# Altium schematic symbol library omap.SchLib: 52 symbols
Pins are listed as number, name and electrical type; pins without a type are passive.

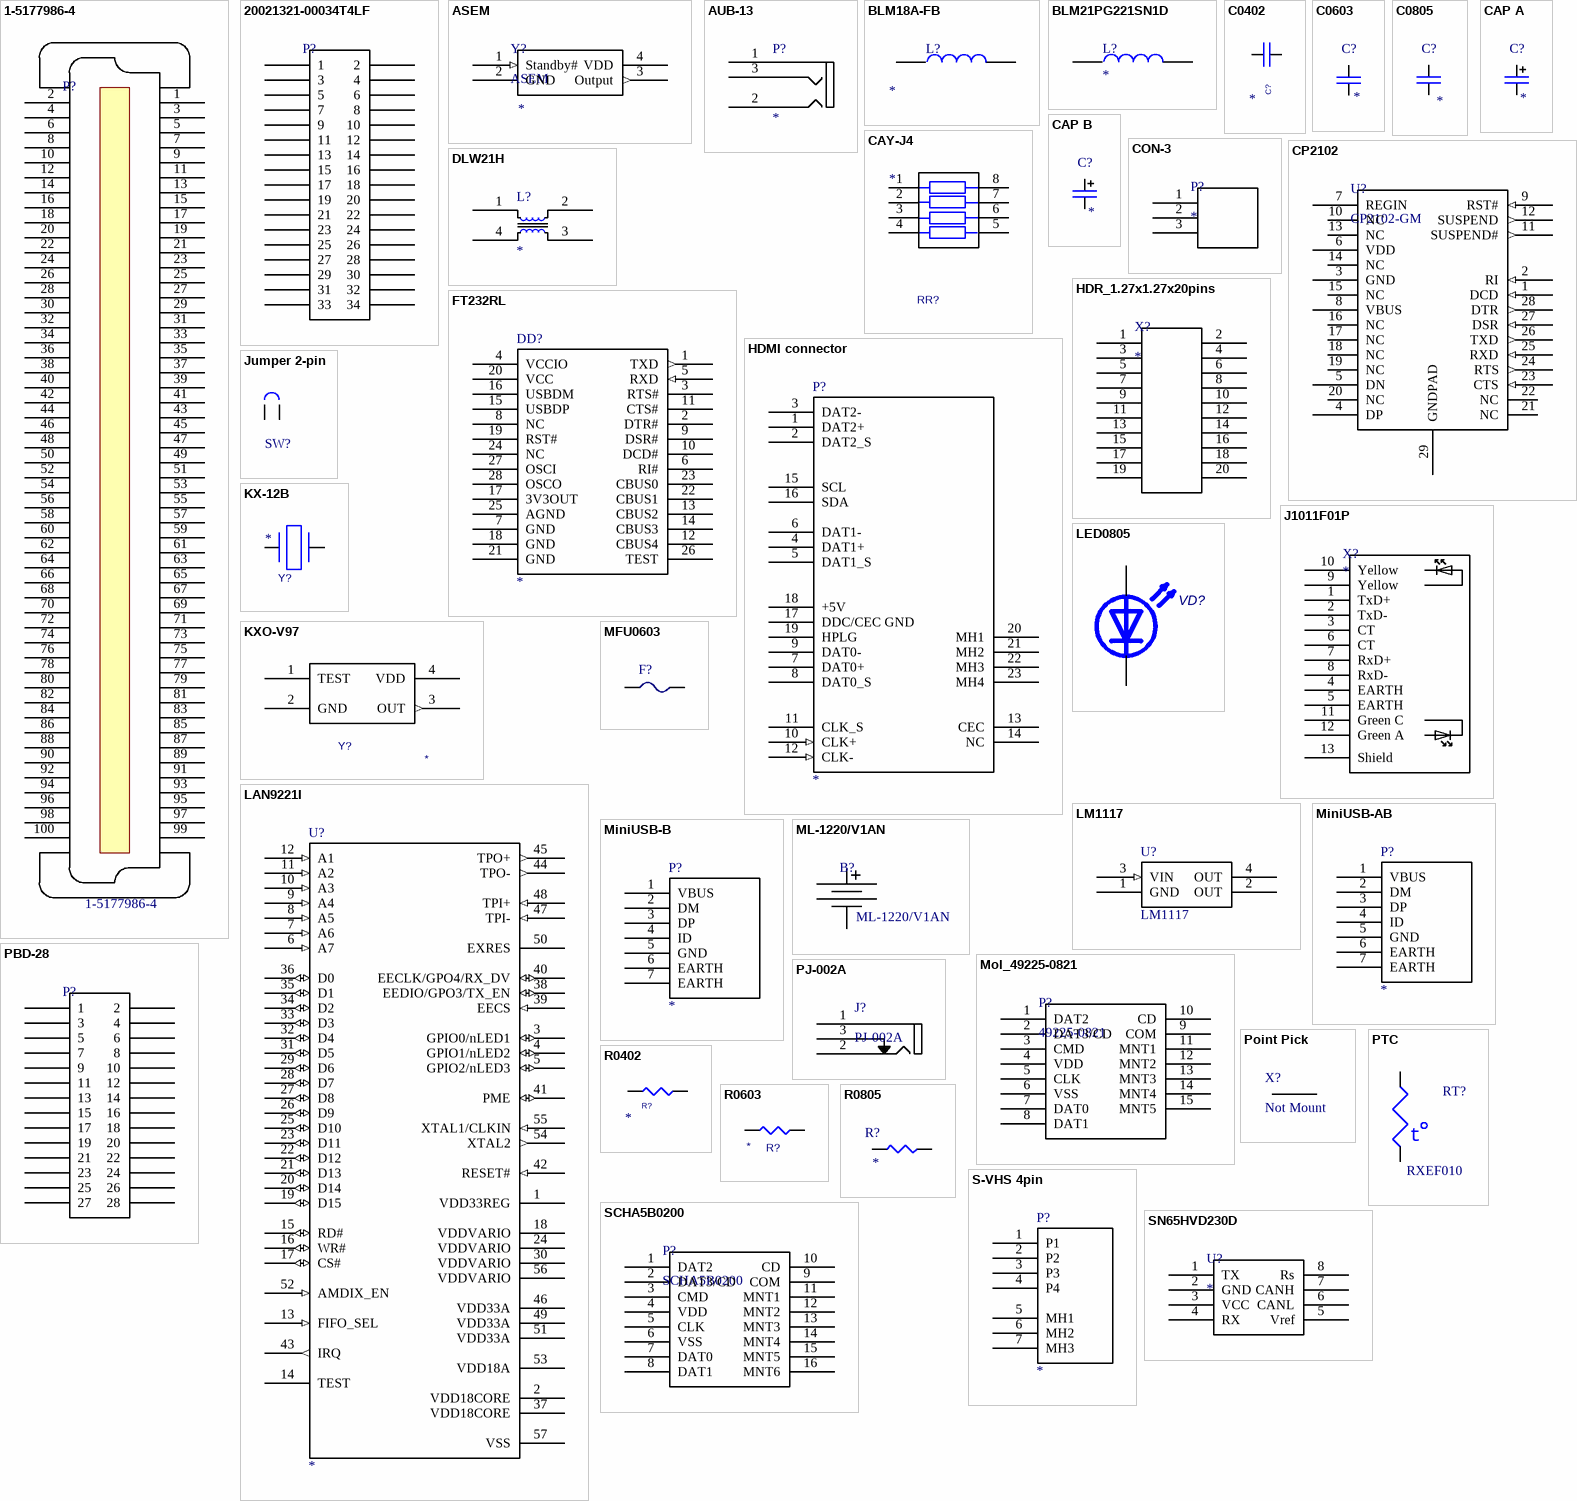
[diagram p0: symbols 1-5177986-4 to SN65HVD230D]

## 1-5177986-4
designator P?  Man P/N: 1-5177986-4  (hidden comment: *)
Fine Pitch SMT Stacking Connectors; Manufacturer: TE Connectivity
footprint 1-5177986-4
pins: 1, 2, 3, 4, 5, 6, 7, 8, 9, 10, 11, 12, 13, 14, 15, 16, 17, 18, 19, 20, 21, 22, 23, 24, 25, 26, 27, 28, 29, 30, 31, 32, 33, 34, 35, 36, 37, 38, 39, 40, 41, 42, 43, 44, 45, 46, 47, 48, 49, 50, 51, 52, 53, 54, 55, 56, 57, 58, 59, 60, 61, 62, 63, 64, 65, 66, 67, 68, 69, 70, 71, 72, 73, 74, 75, 76, 77, 78, 79, 80, 81, 82, 83, 84, 85, 86, 87, 88, 89, 90, 91, 92, 93, 94, 95, 96, 97, 98, 99, 100

## 20021321-00034T4LF
designator P?  (value not drawn)
CONN RECEPT 34POS DUAL SMD; Manufacturer: Minitek; Vendor: Digikey; Vendor P/N: 609-3777-ND; Man P/N: 20021321-00034T4LF
footprint 20021321-00034T4LF (Connector; Socket; 17x2 Position)
pins: 1, 2, 3, 4, 5, 6, 7, 8, 9, 10, 11, 12, 13, 14, 15, 16, 17, 18, 19, 20, 21, 22, 23, 24, 25, 26, 27, 28, 29, 30, 31, 32, 33, 34

## ASEM
designator Y?
Ultra Miniature Pure SiliconTM Clock Oscillator; Manufacturer: Abracon; Man P/N: *; Value: *
footprint ASEM
pins: 1 Standby# (in), 2 GND (power), 3 Output (out), 4 VDD (power)

## AUB-13
designator P?
Audio connector mini-jack 3.5mm, 3 pins; Vendor: brownbear.ru
footprint AUB_13 (3.5mm audio jack, PTH on pcb, 3 contacts)
pins: 1 GND, 2 RIGHT, 3 LEFT

## BLM18A-FB
designator L?
Chip EMIFILr Inductor Type; Manufacturer: Murata; Man P/N: *
footprint CHIP0603
pins: 1, 2

## BLM21PG221SN1D
designator L?
BLM21PG221SN1D; Manufacturer: Murata; Man P/N: BLM21PG221SN1D
footprint Chip2PinSM127P600-8N
pins: 1, 2

## C0402
designator C?  (value not drawn)
Ceramic capacitor C0402; Value: *
footprint CHIP0402
pins: 1, 2

## C0603
designator C?  (value not drawn)
Ceramic capacitor C0603; Value: *
footprint CHIP0603
pins: 1, 2

## C0805
designator C?
0805 Ceramic X5R; Value: *
footprint CHIP0805
pins: 1, 2

## CAP A
designator C?
Tantalum capacitor. Case A; Value: *
footprint A (Capacitor, SM Tantalum; Body 3.2 x 1.6 mm (LxW typ))
pins: 1, 2

## CAP B
designator C?
Tantalum capacitor. Case B; Value: *
footprint B (Capacitor, SM Tantalum; Body 3.5 x 2.8 mm (LxW typ))
pins: 1, 2

## CAY-J4
designator RR?
Resistor network 4x; Value: *
footprint PACKAGE-J4
pins: 1, 2, 3, 4, 5, 6, 7, 8

## CON-3
designator P?
2.54mm connector
pins: 1, 2, 3

## CP2102
designator U?, comment CP2102-GM
SINGLE-CHIP USB TO UART BRIDGE; Manufacturer: Silicon Labs; Man P/N: CP2102-GM
footprint QFN28 (28-Pin Quad Flat No-Lead 0.5 mm Pitch, IPC Low Density)
pins: 1 DCD (in), 2 RI (in), 3 GND, 4 DP, 5 DN, 6 VDD, 7 REGIN, 8 VBUS, 9 RST# (in), 10 NC, 11 SUSPEND# (out), 12 SUSPEND (out), 13 NC, 14 NC, 15 NC, 16 NC, 17 NC, 18 NC, 19 NC, 20 NC, 21 NC, 22 NC, 23 CTS (in), 24 RTS (out), 25 RXD (in), 26 TXD (out), 27 DSR (in), 28 DTR (out), 29 GNDPAD

## DLW21H
designator L?
Low profile wire-wound common choke coil; Manufacturer: Murata; Man P/N: DLW21HN900SQ2
footprint DLW21H (DLW21H Series Murata)
pins: 1, 2, 3, 4

## FT232RL
designator DD?
Single chip USB to USART transfer interface.; Manufacturer: FTDI; Man P/N: FT232RL; Package: 28 Pin SSOP
footprint SOP65P780X200-28N (SOP, 28-Leads, Body 10,5x5,6mm (max), Pitch 0,65mm, IPC Medium Density)
pins: 1 TXD (out), 2 DTR#, 3 RTS#, 4 VCCIO, 5 RXD (in), 6 RI#, 7 GND (power), 8 NC, 9 DSR#, 10 DCD#, 11 CTS#, 12 CBUS4, 13 CBUS2, 14 CBUS3, 15 USBDP, 16 USBDM, 17 3V3OUT (power), 18 GND (power), 19 RST#, 20 VCC (power), 21 GND (power), 22 CBUS1, 23 CBUS0, 24 NC, 25 AGND (power), 26 TEST, 27 OSCI, 28 OSCO

## HDMI connector
designator P?
1.0 HDMI RIGHT ANGLE 19-pin; Man P/N A: Molex 47151-0001; Man P/N: PulseEng E810K-SB0G1X-L
footprint HDMI connector (HDMI connector without panel mount, PULSE manufacturer)
pins: 1 DAT2+, 2 DAT2_S, 3 DAT2-, 4 DAT1+, 5 DAT1_S, 6 DAT1-, 7 DAT0+, 8 DAT0_S, 9 DAT0-, 10 CLK+ (in), 11 CLK_S, 12 CLK- (in), 13 CEC, 14 NC, 15 SCL, 16 SDA, 17 DDC/CEC GND (power), 18 +5V (power), 19 HPLG, 20 MH1, 21 MH2, 22 MH3, 23 MH4

## HDR_1.27x1.27x20pins
designator X?
Dual Raw Socket Strip; Manufacturer: Major League; Man P/N: TSHC-510-D-06-340-G-LF
footprint MHDR2X10 (Connector; Header; 10x2 Position)
pins: 1, 2, 3, 4, 5, 6, 7, 8, 9, 10, 11, 12, 13, 14, 15, 16, 17, 18, 19, 20

## J1011F01P
designator X?
Network filter/connector RJ45; Manufacturer: PulsEng; Man P/N: J1011F21PNL
footprint Ethernet J1 (J1011F01PNL PulseJack)
pins: 1 TxD+, 2 TxD-, 3 CT, 4 EARTH, 5 EARTH, 6 CT, 7 RxD+, 8 RxD-, 9 Yellow, 10 Yellow, 11 Green C, 12 Green A, 13 Shield

## Jumper 2-pin
designator SW?  (value not drawn)
Jumper 2-pin 2.54mm
footprint JUMPER_2
pins: 1, 2

## KX-12B
designator Y?
Quartz crystal 6x3.5mm; Value: *
footprint KX-12B
footprint HS49smd
pins: 1, 2

## KXO-V97
designator Y?
Quartz oscillator 7x5mm; Manufacturer: Geyer; Man P/N: KXO-V97; Value: *
footprint KXO_V97
pins: 1 TEST, 2 GND (power), 3 OUT (out), 4 VDD (power)

## LAN9221I
designator U?
lan9221i; Manufacturer: SMSC; Man P/N: LAN9221I-ABZJ; Case: QFN56
footprint QFN56 (QFN, 56-Leads, Body 8,1x8,1mm (max), Pitch 0,50mm, IPC Medium Density)
pins: 1 VDD33REG (power), 2 VDD18CORE (power), 3 GPIO0/nLED1 (io), 4 GPIO1/nLED2 (io), 5 GPIO2/nLED3 (io), 6 A7 (in), 7 A6 (in), 8 A5 (in), 9 A4 (in), 10 A3 (in), 11 A2 (in), 12 A1 (in), 13 FIFO_SEL (in), 14 TEST, 15 RD# (io), 16 WR# (io), 17 CS# (io), 18 VDDVARIO (power), 19 D15 (io), 20 D14 (io), 21 D13 (io), 22 D12 (io), 23 D11 (io), 24 VDDVARIO (power), 25 D10 (io), 26 D9 (io), 27 D8 (io), 28 D7 (io), 29 D6 (io), 30 VDDVARIO (power), 31 D5 (io), 32 D4 (io), 33 D3 (io), 34 D2 (io), 35 D1 (io), 36 D0 (io), 37 VDD18CORE (power), 38 EEDIO/GPO3/TX_EN (io), 39 EECS (in), 40 EECLK/GPO4/RX_DV (io), 41 PME (io), 42 RESET# (in), 43 IRQ (out), 44 TPO- (out), 45 TPO+ (out), 46 VDD33A (power), 47 TPI- (in), 48 TPI+ (in), 49 VDD33A (power), 50 EXRES (power), 51 VDD33A (power), 52 AMDIX_EN (in), 53 VDD18A (power), 54 XTAL2 (out), 55 XTAL1/CLKIN (in), 56 VDDVARIO (power), 57 VSS (power)

## LED0805
designator VD?  (value not drawn)
LED 0805; Value: *
footprint LED0805 (Chip LED, 2-Leads, Body 2,0x1,3mm, IPC Medium Density)
pins: 1 A (power), 2 C (power)

## LM1117
designator U?
800mA Low-Dropout Linear Regulator; Manufacturer: National; Man P/N: LM1117IMPX-3.3; Package: 3-lead  SOT-223
footprint SOT223 (SOT-223/SC-73; 4 Leads; Body 6.7 x 7.3 mm, inc. leads (LxW max))
pins: 1 GND (power), 2 OUT (power), 3 VIN (in), 4 OUT (power)

## MFU0603
designator F?  (value not drawn)
Thin Film Fuse; Manufacturer: Vishay; Man P/N: MFU0603FF01500P100; Package: 0603
footprint CHIP0603
pins: 1, 2

## MiniUSB-AB
designator P?
Mini USB Type AB CONNECTOR
footprint MINI-USB-B5 SMT
pins: 1 VBUS (power), 2 DM, 3 DP, 4 ID, 5 GND (power), 6 EARTH, 7 EARTH

## MiniUSB-B
designator P?
Mini USB Type B CONNECTOR
footprint MINI-USB-B5 SMT
pins: 1 VBUS (power), 2 DM, 3 DP, 4 ID, 5 GND (power), 6 EARTH, 7 EARTH

## ML-1220/V1AN
designator B?  Man P/N: ML-1220/V1AN  (hidden comment: *)
BATTERY LITHIUM 3V RECHARGE PC PINS; Manufacturer: Panasonic
footprint ML1220-V1AN
pins: 1, 2

## Mol_49225-0821
designator P?, comment 49225-0821
Connector for microSD™ Card (Push-push Type); Manufacturer: Molex; Man P/N: 49225-0821
footprint SDCard (molex 0492250821)
pins: 1 DAT2, 2 DAT3/CD, 3 CMD, 4 VDD (power), 5 CLK, 6 VSS (power), 7 DAT0, 8 DAT1, 9 COM, 10 CD, 11 MNT1, 12 MNT2, 13 MNT3, 14 MNT4, 15 MNT5

## PBD-28
designator P?  (value not drawn)
2.54x2.54mm double row connector, 28pins; Vendor: Major League; Man P/N: LSWSS-128-D-02-G
footprint HDR2X14_Board2 (Connector; Header; 14x2 Position)
pins: 1, 2, 3, 4, 5, 6, 7, 8, 9, 10, 11, 12, 13, 14, 15, 16, 17, 18, 19, 20, 21, 22, 23, 24, 25, 26, 27, 28

## PJ-002A
designator J?
DC POWER JACK; Manufacturer: CIU Inc; Vendor: Digi-key; Alternative P/N: DJK-02A; Man P/N: PJ-002A
footprint PJ-002A (DC POWER JACK)
pins: 1 GND, 2 RIGHT, 3 LEFT

## Point Pick
designator X?, comment Not Mount
Pick Point
footprint POINT (Point Pick)
pins: 1

## PTC
designator RT?  Man P/N: RXEF010  (hidden comment: *)
POLYSWITCH PTC RESET 0.1A; Manufacturer: TE Connectivity
footprint PTC
pins: 1, 2
text: t

## R0402
designator R?  (value not drawn)
Resistor 0402; Value: *
footprint CHIP0402
pins: 1, 2

## R0603
designator R?
Resistor 0603; Value: *
footprint CHIP0603
pins: 1, 2

## R0805
designator R?
Film resistor; Value: *
footprint CHIP0805
pins: 1, 2

## S-VHS 4pin
designator P?
S-Video PCB-Connector 4 pin; Man P/N: MDN-4FR; URL: http://www.brownbear.ru/goods/2398.html
footprint MDN-4FR
pins: 1 P1, 2 P2, 3 P3, 4 P4, 5 MH1, 6 MH2, 7 MH3

## SCHA5B0200
designator P?
Connector for microSD™ Card (Push-push Type); Manufacturer: ALPS; Man P/N: SCHA5B0200
footprint micro-sd (SCHA5B0200)
pins: 1 DAT2, 2 DAT3/CD, 3 CMD, 4 VDD (power), 5 CLK, 6 VSS (power), 7 DAT0, 8 DAT1, 9 COM, 10 CD, 11 MNT1, 12 MNT2, 13 MNT3, 14 MNT4, 15 MNT5, 16 MNT6

## SN65HVD230D
designator U?
3.3-V CAN TRANSCEIVER; Manufacturer: Texas Instruments; Man P/N: SN65HVD230D
pins: 1 TX, 2 GND, 3 VCC, 4 RX, 5 Vref, 6 CANL, 7 CANH, 8 Rs

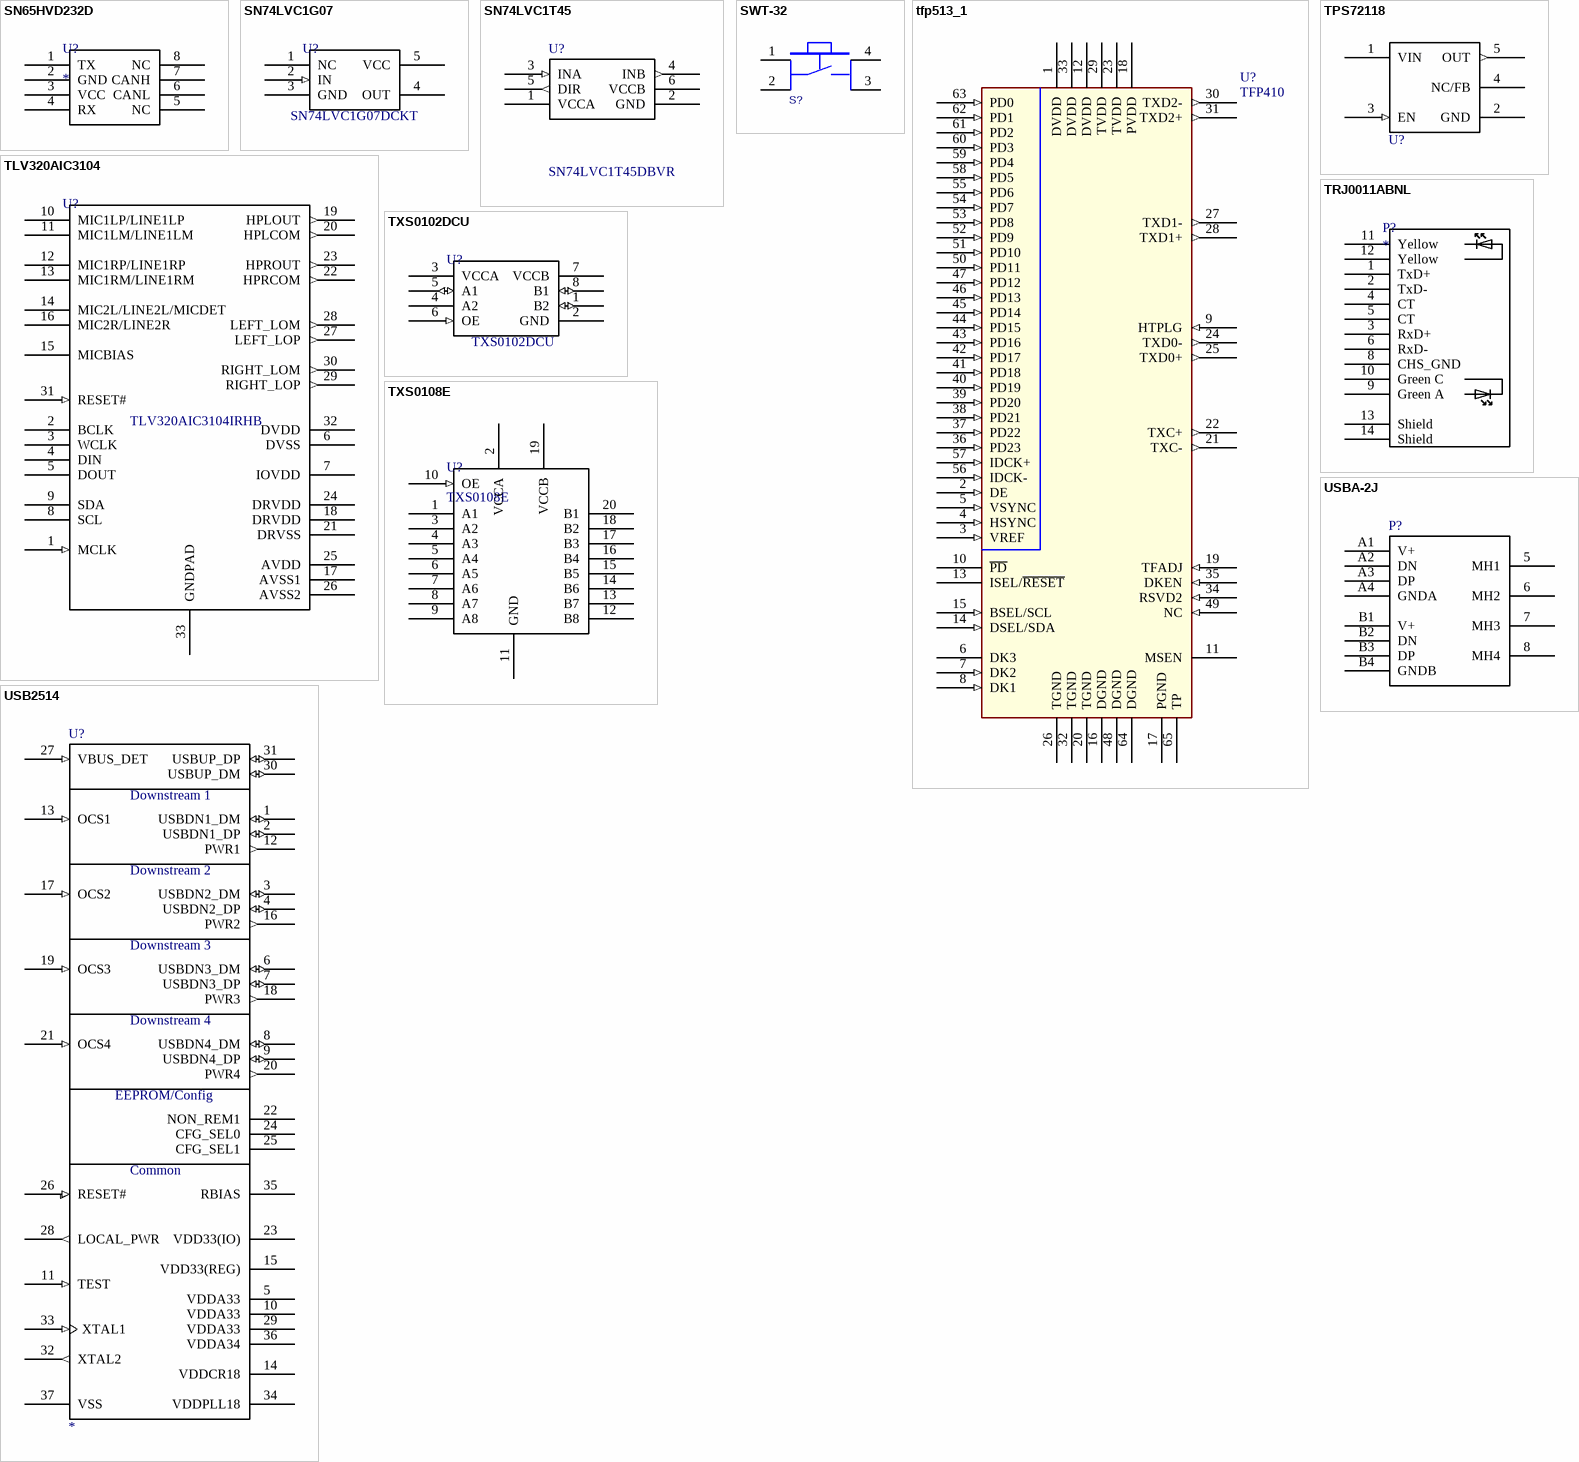
[diagram p1: symbols SN65HVD232D to USBA-2J]

## SN65HVD232D
designator U?
3.3-V CAN TRANSCEIVER; Manufacturer: Texas Instruments; Man P/N: SN65HVD232D
pins: 1 TX, 2 GND, 3 VCC, 4 RX, 5 NC, 6 CANL, 7 CANH, 8 NC

## SN74LVC1G07
designator U?  Man P/N: SN74LVC1G07DCKT
SINGLE BUFFER/DRIVER WITH OPEN-DRAIN OUTPUT; Package: DCK
pins: 1 NC, 2 IN (in), 3 GND (power), 4 OUT (oc), 5 VCC (power)

## SN74LVC1T45
designator U?, comment SN74LVC1T45DBVR
Single-Bit Dual-Supply Bus Transceiver; Manufacturer: Texas Instruments; URL: http://focus.ti.com/docs/prod/folders/print/sn74lvc1t45.html; Man P/N: SN74LVC1T45DBVR
footprint SOT95P280X145-6L (SOT23, 6-Leads, Body 3,0x3,0mm (max), Pitch 0,95mm, IPC High Density)
footprint SOT23-6 (SOT-457/SC-74; 6 Leads; Body 3 x 3 mm, inc. leads (LxW max))
pins: 1 VCCA (power), 2 GND (power), 3 INA (in), 4 INB (out), 5 DIR (out), 6 VCCB (power)

## SWT-32
designator S?  (value not drawn)
Push button; Vendor: brownbear.ru; Man P/N: SWT-32
footprint SWT-32
pins: 1, 2, 3, 4

## tfp513_1
designator U?, comment TFP410
TI PanelBus digital transmitter; Man P/N: TFP410PAP; Manufacturer: TI
footprint PQFP64 (64-Pin Quad Flat Pad 0.5 mm Pitch, IPC Low Density)
pins: 1 DVDD (power), 2 DE (in), 3 VREF (in), 4 HSYNC (in), 5 VSYNC (in), 6 DK3, 7 DK2 (in), 8 DK1 (in), 9 HTPLG (in), 10 ~{PD}, 11 MSEN, 12 DVDD (power), 13 ISEL/~{RESET}, 14 DSEL/SDA (in), 15 BSEL/SCL (in), 16 DGND (power), 17 PGND (power), 18 PVDD (power), 19 TFADJ (in), 20 TGND (power), 21 TXC- (out), 22 TXC+ (out), 23 TVDD (power), 24 TXD0- (out), 25 TXD0+ (out), 26 TGND (power), 27 TXD1- (out), 28 TXD1+ (out), 29 TVDD (power), 30 TXD2- (out), 31 TXD2+ (out), 32 TGND (power), 33 DVDD (power), 34 RSVD2 (in), 35 DKEN (in), 36 PD23 (in), 37 PD22 (in), 38 PD21 (in), 39 PD20 (in), 40 PD19 (in), 41 PD18 (in), 42 PD17 (in), 43 PD16 (in), 44 PD15 (in), 45 PD14 (in), 46 PD13 (in), 47 PD12 (in), 48 DGND (power), 49 NC (in), 50 PD11 (in), 51 PD10 (in), 52 PD9 (in), 53 PD8 (in), 54 PD7 (in), 55 PD6 (in), 56 IDCK- (in), 57 IDCK+ (in), 58 PD5 (in), 59 PD4 (in), 60 PD3 (in), 61 PD2 (in), 62 PD1 (in), 63 PD0 (in), 64 DGND (power), 65 TP (power)

## TLV320AIC3104
designator U?  Man P/N: TLV320AIC3104IRHB  (hidden comment: *)
LOW-POWER STEREO AUDIO CODEC FOR PORTABLE AUDIO/TELEPHONY; Manufacturer: TI
footprint QFN32 (32-Pin Quad Flat No-Lead 0.5 mm Pitch, IPC Medium Density)
pins: 1 MCLK (in), 2 BCLK, 3 WCLK, 4 DIN, 5 DOUT, 6 DVSS (power), 7 IOVDD (power), 8 SCL, 9 SDA, 10 MIC1LP/LINE1LP, 11 MIC1LM/LINE1LM, 12 MIC1RP/LINE1RP, 13 MIC1RM/LINE1RM, 14 MIC2L/LINE2L/MICDET, 15 MICBIAS, 16 MIC2R/LINE2R, 17 AVSS1 (power), 18 DRVDD (power), 19 HPLOUT (out), 20 HPLCOM (out), 21 DRVSS (power), 22 HPRCOM (out), 23 HPROUT (out), 24 DRVDD (power), 25 AVDD (power), 26 AVSS2 (power), 27 LEFT_LOP (out), 28 LEFT_LOM (out), 29 RIGHT_LOP (out), 30 RIGHT_LOM (out), 31 RESET# (in), 32 DVDD (power), 33 GNDPAD (power)

## TPS72118
designator U?  (value not drawn)
LOW INPUT VOLTAGE, CAP FREE 150-mA; Manufacturer: TI; Man P/N: TPS72118DBV
footprint SOT23-5 (SOT-23/SC-74A; 5 Leads; Body 3 x 3 mm, inc. leads (LxW max))
pins: 1 VIN (power), 2 GND (power), 3 EN (in), 4 NC/FB, 5 OUT (out)

## TRJ0011ABNL
designator P?
Network filter/connector RJ45; Manufacturer: Trxcom; Man P/N: TRJ0011ABNL; Vendor: Eltech.spb.ru
pins: 1 TxD+, 2 TxD-, 3 RxD+, 4 CT, 5 CT, 6 RxD-, 8 CHS_GND, 9 Green A, 10 Green C, 11 Yellow, 12 Yellow, 13 Shield, 14 Shield

## TXS0102DCU
designator U?  Man P/N: TXS0102DCU  (hidden comment: *)
2bit Bidirectional voltage translator; Manufacturer: TI; Package: DCU
footprint PDSO8_DCU (Plastic Small Outline; 8 Leads; Body Width 3.15 mm; Pitch 0.65 mm)
pins: 1 B2 (io), 2 GND (power), 3 VCCA (power), 4 A2 (power), 5 A1 (io), 6 OE (in), 7 VCCB (power), 8 B1 (io)

## TXS0108E
designator U?
8-BIT BIDIRECTIONAL VOLTAGE-LEVEL TRANSLATOR; Manufacturer: TI; Man P/N: TXS0108EPWR
footprint PW020 (Shrink Small Outline; 20 Leads; Body Width 4.4 mm; Pitch 0.65 mm)
pins: 1 A1, 2 VCCA (power), 3 A2, 4 A3, 5 A4, 6 A5, 7 A6, 8 A7, 9 A8, 10 OE (in), 11 GND (power), 12 B8, 13 B7, 14 B6, 15 B5, 16 B4, 17 B3, 18 B2, 19 VCCB (power), 20 B1

## USB2514
designator U?
USB 2.0 High-Speed HUB controller; Manufacturer: SMSC; Man P/N: USB2514-AEZG; Package: 36QFN
footprint QFN36 (36-Pin Quad Flat No-Lead 0.5 mm Pitch, IPC Medium Density)
pins: 1 USBDN1_DM (io), 2 USBDN1_DP (io), 3 USBDN2_DM (io), 4 USBDN2_DP (io), 5 VDDA33 (power), 6 USBDN3_DM (io), 7 USBDN3_DP (io), 8 USBDN4_DM (io), 9 USBDN4_DP (io), 10 VDDA33 (power), 11 TEST (in), 12 PWR1 (out), 13 OCS1 (in), 14 VDDCR18 (power), 15 VDD33(REG) (power), 16 PWR2 (out), 17 OCS2 (in), 18 PWR3 (out), 19 OCS3 (in), 20 PWR4 (out), 21 OCS4 (in), 22 NON_REM1, 23 VDD33(IO) (power), 24 CFG_SEL0, 25 CFG_SEL1, 26 RESET# (in), 27 VBUS_DET (in), 28 LOCAL_PWR (out), 29 VDDA33 (power), 30 USBUP_DM (io), 31 USBUP_DP (io), 32 XTAL2 (out), 33 XTAL1 (in), 34 VDDPLL18 (power), 35 RBIAS, 36 VDDA34 (power), 37 VSS (power)
text: Downstream 1; Downstream 2; Downstream 3; Downstream 4; EEPROM/Config; Common

## USBA-2J
designator P?
USB HOST Type A Double CONNECTOR; Vendor: brownbear.ru; Man P/N: USBA-2J
footprint USBA-2J (Разъем USB (м) на плату, двойной, тип А , тип 1)
pins: 5 MH1, 6 MH2, 7 MH3, 8 MH4, A1 V+ (power), A2 DN, A3 DP, A4 GNDA (power), B1 V+ (power), B2 DN, B3 DP, B4 GNDB (power)